# Altium footprint library Footprint.PcbLib: 97 footprints (part 1 of 7)
Each footprint in its own frame and in the unit in brackets; x right, y up, seen from the top. Pads: shape width x height; smd on the part's side, far side on the other; paste and mask are expansions set on the pad; w line width, h text height; cw(c..) or ccw(c..) is an arc to the next point about the centre after c.
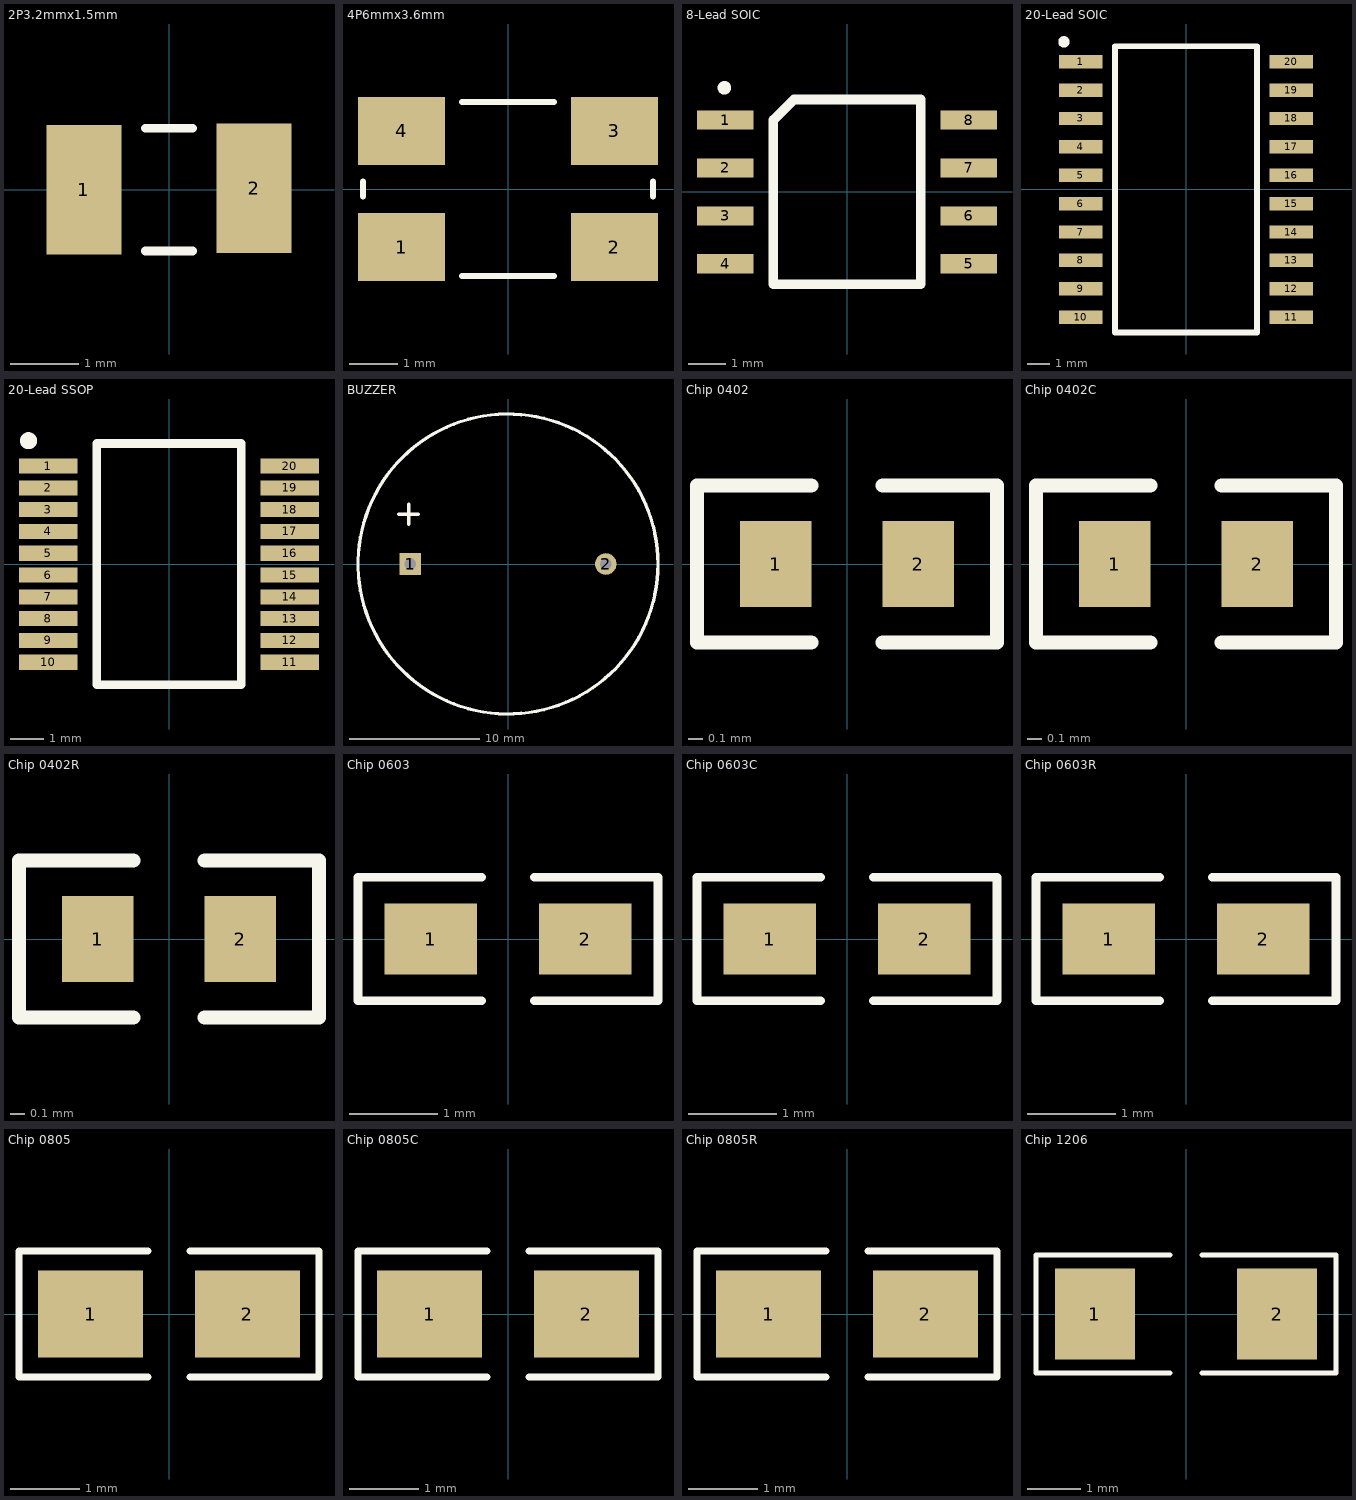
[diagram p0: the footprints below, top view; thin cyan lines are the x and y axes]

## 2P3.2mmx1.5mm [mm] "Crystals 2Pad 3.2mm x 1.5mm"
pads (2):
  rect 1.1x1.9 smd: 1(-1.25,0) 2(1.25,0.02)
Top Overlay:
  lines w0.127: -0.35,-0.9 0.35,-0.9 ; -0.35,0.9 0.35,0.9
3D body: height 0.9, standoff 0, extent -1.6,-0.75 1.6,0.75

## 4P6mmx3.6mm [mm] "Crystals 4Pad 6mm x 3.6mm"
pads (4):
  rect 1.8x1.4 smd: 1(-2.2,-1.2) 2(2.2,-1.2) 3(2.2,1.2) 4(-2.2,1.2)
Top Overlay:
  lines w0.127: -3,-0.15 -3,0.15 ; -0.95,-1.8 0.95,-1.8 ; -0.95,1.8 0.95,1.8 ; 3,-0.15 3,0.15
3D body: height 1.2, standoff 0, extent -3,-1.8 3,1.8

## 8-Lead SOIC [mm]
pads (8):
  rect 1.5x0.51 smd: 1(-3.225,1.905) 2(-3.225,0.635) 3(-3.225,-0.635) 4(-3.225,-1.905) 5(3.225,-1.905) 6(3.225,-0.635) 7(3.225,0.635) 8(3.225,1.905)
Top Overlay:
  circle w0.254: c-3.25,2.76 r0.05
  lines w0.254: -1.397,2.45 -1.405,2.45 ; -1.405,2.45 1.95,2.45 1.95,-2.45 -1.95,-2.45 -1.95,1.905 -1.405,2.45
3D body: height 1.75, standoff 0.25, extent -2,-2.5 2,2.5
3D body: height 0.25, standoff 0, extent 2.7,1.65 3.1,2.16
3D body: height 1, standoff 0.75, extent 2,1.65 2.45,2.16
3D body: height 1, standoff 0, extent 2.45,1.65 2.7,2.16
3D body: height 1, standoff 0, extent 2.45,0.38 2.7,0.89
3D body: height 1, standoff 0.75, extent 2,0.38 2.45,0.89
3D body: height 0.25, standoff 0, extent 2.7,0.38 3.1,0.89
3D body: height 1, standoff 0, extent 2.45,-0.89 2.7,-0.38
3D body: height 1, standoff 0.75, extent 2,-0.89 2.45,-0.38
3D body: height 0.25, standoff 0, extent 2.7,-0.89 3.1,-0.38
3D body: height 1, standoff 0, extent 2.45,-2.16 2.7,-1.65
3D body: height 1, standoff 0.75, extent 2,-2.16 2.45,-1.65
3D body: height 0.25, standoff 0, extent 2.7,-2.16 3.1,-1.65
3D body: height 0.25, standoff 0, extent -3.1,1.65 -2.7,2.16
3D body: height 1, standoff 0.75, extent -2.45,1.65 -2,2.16
3D body: height 1, standoff 0, extent -2.7,1.65 -2.45,2.16
3D body: height 0.25, standoff 0, extent -3.1,0.38 -2.7,0.89
3D body: height 1, standoff 0.75, extent -2.45,0.38 -2,0.89
3D body: height 1, standoff 0, extent -2.7,0.38 -2.45,0.89
3D body: height 0.25, standoff 0, extent -3.1,-0.89 -2.7,-0.38
3D body: height 1, standoff 0.75, extent -2.45,-0.89 -2,-0.38
3D body: height 1, standoff 0, extent -2.7,-0.89 -2.45,-0.38
3D body: height 1, standoff 0, extent -2.7,-2.16 -2.45,-1.65
3D body: height 1, standoff 0.75, extent -2.45,-2.16 -2,-1.65
3D body: height 0.25, standoff 0, extent -3.1,-2.16 -2.7,-1.65

## 20-Lead SOIC [mm]
pads (20):
  rect 1.95x0.6 smd: 1(-4.7,5.715) 2(-4.7,4.445) 3(-4.7,3.175) 4(-4.7,1.905) 5(-4.7,0.635) 6(-4.7,-0.635) 7(-4.7,-1.905) 8(-4.7,-3.175) 9(-4.7,-4.445) 10(-4.7,-5.715) 11(4.7,-5.715) 12(4.7,-4.445) 13(4.7,-3.175) 14(4.7,-1.905) 15(4.7,-0.635) 16(4.7,0.635) 17(4.7,1.905) 18(4.7,3.175) 19(4.7,4.445) 20(4.7,5.715)
Top Overlay:
  circle w0.254: c-5.461,6.604 r0.127
  lines w0.254: -3.175,-6.4 3.175,-6.4 3.175,6.4 -3.175,6.4 -3.175,-6.4

## 20-Lead SSOP [mm]
pads (20):
  rect 1.75x0.45 smd: 1(-3.6,2.925) 2(-3.6,2.275) 3(-3.6,1.625) 4(-3.6,0.975) 5(-3.6,0.325) 6(-3.6,-0.325) 7(-3.6,-0.975) 8(-3.6,-1.625) 9(-3.6,-2.275) 10(-3.6,-2.925) 11(3.6,-2.925) 12(3.6,-2.275) 13(3.6,-1.625) 14(3.6,-0.975) 15(3.6,-0.325) 16(3.6,0.325) 17(3.6,0.975) 18(3.6,1.625) 19(3.6,2.275) 20(3.6,2.925)
Top Overlay:
  circle w0.254: c-4.191,3.683 r0.127
  lines w0.254: -2.159,-3.6 2.159,-3.6 2.159,3.6 -2.159,3.6 -2.159,-3.6

## BUZZER [mil]
pads (2):
  rect 65x65 hole 35: 1(-295.28,0)
  round 65 hole 35: 2(295.28,0)
Top Overlay:
  circle w10: c0,0 r452.76
  lines w10: -330,150 -270,150 ; -300,120 -300,180

## Chip 0402 [mm]
pads (2):
  rect 0.5x0.6 smd: 1(-0.5,0) 2(0.5,0)
Top Overlay:
  lines w0.1: -0.25,-0.55 -1.05,-0.55 -1.05,0.55 -0.25,0.55 ; 0.25,-0.55 1.05,-0.55 1.05,0.55 0.25,0.55

## Chip 0402C [mm]
pads (2):
  rect 0.5x0.6 smd: 1(-0.5,0) 2(0.5,0)
Top Overlay:
  lines w0.1: -0.25,-0.55 -1.05,-0.55 -1.05,0.55 -0.25,0.55 ; 0.25,-0.55 1.05,-0.55 1.05,0.55 0.25,0.55
3D body: height 0.54, standoff 0.01, extent -0.3,-0.25 0.3,0.25
3D body: height 0.55, standoff 0, extent -0.5,-0.25 -0.3,0.25
3D body: height 0.55, standoff 0, extent 0.3,-0.25 0.5,0.25

## Chip 0402R [mm]
pads (2):
  rect 0.5x0.6 smd: 1(-0.5,0) 2(0.5,0)
Top Overlay:
  lines w0.1: -0.25,-0.55 -1.05,-0.55 -1.05,0.55 -0.25,0.55 ; 0.25,-0.55 1.05,-0.55 1.05,0.55 0.25,0.55
3D body: height 0.3, standoff 0.05, extent -0.25,-0.25 0.25,0.25
3D body: height 0.35, standoff 0.3, extent -0.3,-0.25 0.3,0.25
3D body: height 0.3, standoff 0, extent -0.5,-0.25 -0.25,0.25
3D body: height 0.3, standoff 0, extent 0.25,-0.25 0.5,0.25

## Chip 0603 [mm]
pads (2):
  rect 1.05x0.8 smd: 1(-0.875,0) 2(0.875,0)
Top Overlay:
  lines w0.1: -0.3,-0.7 -1.7,-0.7 -1.7,0.7 -0.3,0.7 ; 0.3,-0.7 1.7,-0.7 1.7,0.7 0.3,0.7

## Chip 0603C [mm]
pads (2):
  rect 1.05x0.8 smd: 1(-0.875,0) 2(0.875,0)
Top Overlay:
  lines w0.1: -0.3,-0.7 -1.7,-0.7 -1.7,0.7 -0.3,0.7 ; 0.3,-0.7 1.7,-0.7 1.7,0.7 0.3,0.7
3D body: height 0.9, standoff 0, extent 0.45,-0.4 0.8,0.4
3D body: height 0.9, standoff 0, extent -0.8,-0.4 -0.45,0.4
3D body: height 0.88, standoff 0.02, extent -0.45,-0.4 0.45,0.4

## Chip 0603R [mm]
pads (2):
  rect 1.05x0.8 smd: 1(-0.875,0) 2(0.875,0)
Top Overlay:
  lines w0.1: -0.3,-0.7 -1.7,-0.7 -1.7,0.7 -0.3,0.7 ; 0.3,-0.7 1.7,-0.7 1.7,0.7 0.3,0.7
3D body: height 0.4, standoff 0.05, extent -0.5,-0.4 0.5,0.4
3D body: height 0.4, standoff 0, extent -0.8,-0.4 -0.5,0.4
3D body: height 0.4, standoff 0, extent 0.5,-0.4 0.8,0.4
3D body: height 0.45, standoff 0.4, extent -0.5,-0.4 0.5,0.4

## Chip 0805 [mm]
pads (2):
  rect 1.5x1.25 smd: 1(-1.125,0) 2(1.125,0)
Top Overlay:
  lines w0.1: -0.3,-0.9 -2.15,-0.9 -2.15,0.9 -0.3,0.9 ; 0.3,-0.9 2.15,-0.9 2.15,0.9 0.3,0.9

## Chip 0805C [mm]
pads (2):
  rect 1.5x1.25 smd: 1(-1.125,0) 2(1.125,0)
Top Overlay:
  lines w0.1: -0.3,-0.9 -2.15,-0.9 -2.15,0.9 -0.3,0.9 ; 0.3,-0.9 2.15,-0.9 2.15,0.9 0.3,0.9
3D body: height 1.28, standoff 0.02, extent -0.5,-0.625 0.5,0.625
3D body: height 1.3, standoff 0, extent -1,-0.625 -0.5,0.625
3D body: height 1.3, standoff 0, extent 0.5,-0.625 1,0.625

## Chip 0805R [mm]
pads (2):
  rect 1.5x1.25 smd: 1(-1.125,0) 2(1.125,0)
Top Overlay:
  lines w0.1: -0.3,-0.9 -2.15,-0.9 -2.15,0.9 -0.3,0.9 ; 0.3,-0.9 2.15,-0.9 2.15,0.9 0.3,0.9
3D body: height 0.5, standoff 0, extent 0.6,-0.625 1,0.625
3D body: height 0.5, standoff 0, extent -1,-0.625 -0.6,0.625
3D body: height 0.5, standoff 0.05, extent -0.6,-0.625 0.6,0.625
3D body: height 0.55, standoff 0.5, extent -0.6,-0.625 0.6,0.625

## Chip 1206 [mm]
pads (2):
  rect 1.5x1.7 smd: 1(-1.7,0) 2(1.7,0)
Top Overlay:
  lines w0.1: -0.3,-1.1 -2.8,-1.1 -2.8,1.1 -0.3,1.1 ; 0.3,-1.1 2.8,-1.1 2.8,1.1 0.3,1.1